# Altium schematic symbol library RCL.SchLib: 2 symbols
Pins are listed as number, name and electrical type; pins without a type are passive.

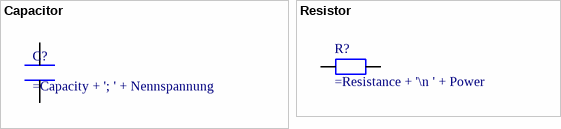
[diagram p0: symbols Capacitor to Resistor]

## Capacitor
designator C?
pins: 1 10, 2 11

## Resistor
designator R?
pins: 1, 2